# EAGLE library part S8B-XH-A_(LF)(SN) (library jst-8-angle)
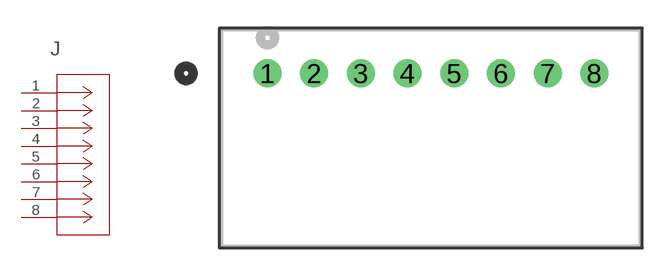
[diagram p0: symbol with the pads of CONN_S8B-XH-A_JST; footprint CONN_S8B-XH-A_JST]

Designator prefix J

## S8B-XH-A_(LF)(SN)CONN_S8B-XH-A_JST (Copyright: Copyright (C) 2022 Ultra Librarian. All rights reserved.; Manufacturer_Part_Number: S8B-XH-A (LF)(SN); Mfr_Name: JST)  [CONN_S8B-XH-A_JST]
1  1  pas
2  2  pas
3  3  pas
4  4  pas
5  5  pas
6  6  pas
7  7  pas
8  8  pas

## Footprint CONN_S8B-XH-A_JST (pad centres in mm)
drill 0.991 pad 1.499 round: 1 0,0; 2 2.5,0; 3 5,0; 4 7.5,0; 5 10,0; 6 12.5,0; 7 15,0; 8 17.5,0